# Altium schematic symbol library PASSIVE.SchLib: 3 symbols
Pins are listed as number, name and electrical type; pins without a type are passive.

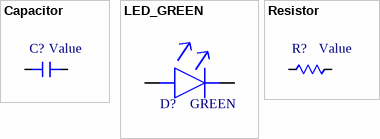
[diagram p0: symbols Capacitor to Resistor]

## Capacitor
designator C?, comment Value
Capacitor
footprint 0402_CAPACITOR
footprint 0603_CAPACITOR (Chip Capacitor, 2-Leads, Body 1.60x0.80mm, IPC Medium Density)
footprint 0805_CAPACITOR (Chip Capacitor, 2-Leads, Body 2.00x1.25mm, IPC Low Density)
pins: 1, 2

## LED_GREEN
designator D?, comment GREEN
GREEN LED
footprint LED_APT1608LZGCK (GREEN LED SMT)
pins: 1, 2

## Resistor
designator R?, comment Value
Resistor; GRAMS Lib Spec: 2.7
footprint 0402_Resistor
footprint 0603_RESISTOR
pins: 1, 2